# EAGLE library part MICROMOUSE_G08R (library TSL262_sensors)
SIL RESISTOR
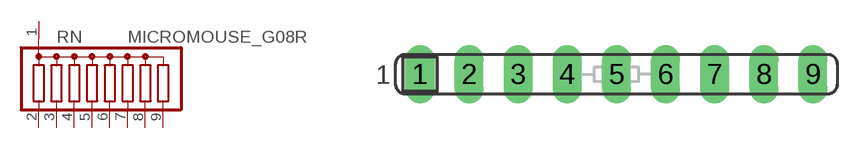
[diagram p0: symbol with the pads of MICROMOUSE_SIL9; footprint MICROMOUSE_SIL9]

Designator prefix RN

## MICROMOUSE_G08R  [MICROMOUSE_SIL9]
1  1  pas
2  2  pas
3  3  pas
4  4  pas
5  5  pas
6  6  pas
7  7  pas
8  8  pas
9  9  pas

## Footprint MICROMOUSE_SIL9 (pad centres in mm)
Single In Line
drill 1 long: 1 -10.16,0; 2 -7.62,0; 3 -5.08,0; 4 -2.54,0; 5 0,0; 6 2.54,0; 7 5.08,0; 8 7.62,0; 9 10.16,0